# Altium footprint library Conn.TE.PcbLib: 14 footprints
Each footprint in its own frame and in the unit in brackets; x right, y up, seen from the top. Pads: shape width x height; smd on the part's side, far side on the other; paste and mask are expansions set on the pad; w line width, h text height; cw(c..) or ccw(c..) is an arc to the next point about the centre after c.
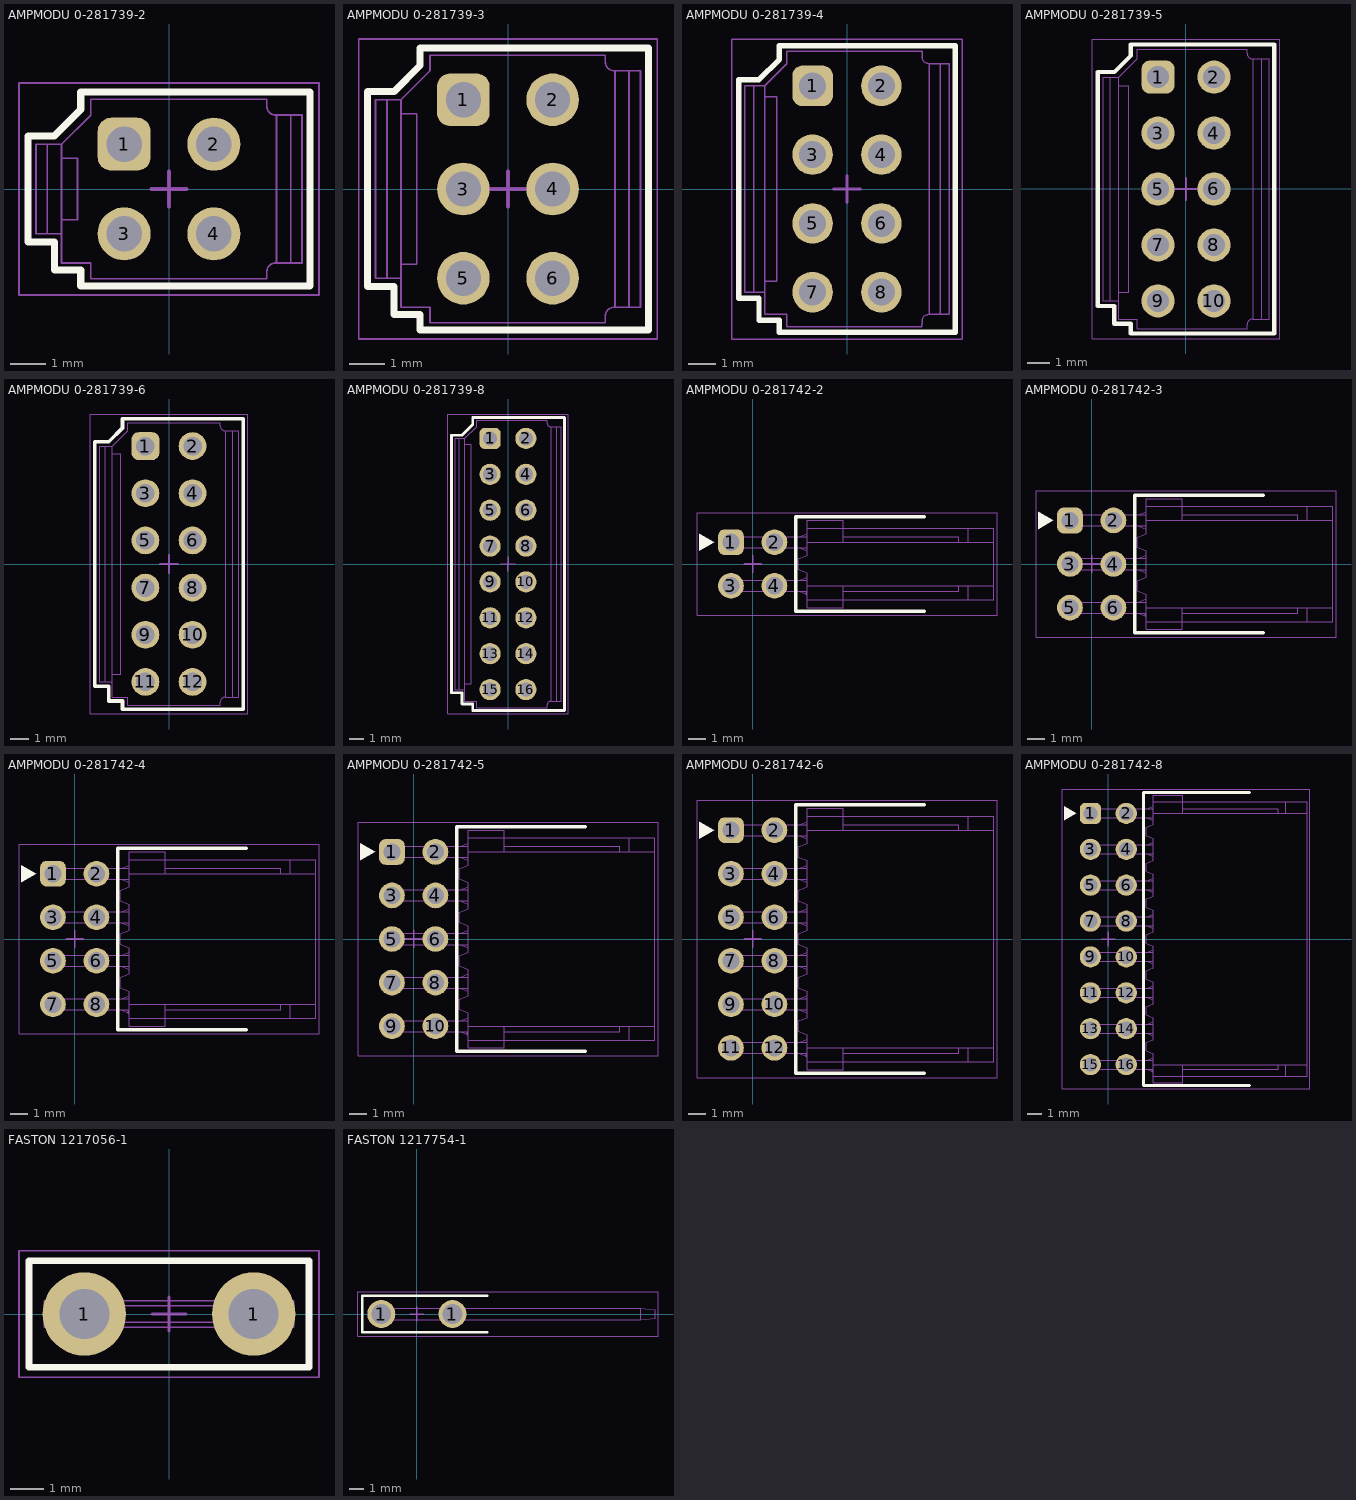
[diagram p0: the footprints below, top view; thin cyan lines are the x and y axes]

## AMPMODU 0-281739-2 [mm] "TE AMPMODU Header, 2.54mm Pitch, 4-Pin"
height 11.4
pads (4):
  rrect50% 1.5x1.5 hole 1: 1(-1.27,1.27)
  round 1.5 hole 1: 2(1.27,1.27) 3(-1.27,-1.27) 4(1.27,-1.27)
Top Overlay:
  lines w0.2: -4,-1.5 -4,1.5 -3.25,1.5 -2.5,2.25 -2.5,2.75 4,2.75 4,-2.75 -2.5,-2.75 -2.5,-2.3 -3.25,-2.3 -3.25,-1.5 -4,-1.5
Bottom Overlay:
  region: -2.254,1.27 -3.12,0.77 -3.12,1.77
Mechanical 1:
  lines w0.05: -3.447,-1.27 -3.447,1.27 ; -3.045,-1.27 -3.77,-1.27 -3.77,1.27 -3.045,1.27 ; -3.045,-0.87 -2.595,-0.87 -2.595,0.87 -3.045,0.87 ; 3.045,-2.095 3.045,2.095 ; 3.447,-2.095 3.447,2.095 ; -3.045,1.27 -2.22,2.095 -2.22,2.54 2.77,2.54 2.77,2.345 ccw(c3.02,2.345) 3.02,2.095 3.77,2.095 3.77,-2.095 3.02,-2.095 ccw(c3.02,-2.345) 2.77,-2.345 2.77,-2.54 -2.22,-2.54 -2.22,-2.095 -3.045,-2.095 -3.045,1.27 ; -1.587,-1.593 -1.587,-0.947 -0.953,-0.947 -0.953,-1.592 -1.587,-1.593 ; -1.587,0.947 -1.588,1.593 -0.953,1.593 -0.953,0.947 -1.587,0.947 ; 0.953,-1.593 1.588,-1.593 1.587,-0.947 0.953,-0.947 0.953,-1.593 ; 0.953,0.947 0.953,1.592 1.587,1.593 1.587,0.947 0.953,0.947
Mechanical 15:
  lines w0.05: -4.25,-3 4.25,-3 4.25,3 -4.25,3 -4.25,-3
  lines w0.1: -0.5,0 0.5,0 ; 0,-0.5 0,0.5
3D body "AMPMODU 0-281739-2.STEP": height 11.4, standoff -2.9, extent -3.77,-2.54 3.77,2.54

## AMPMODU 0-281739-3 [mm] "TE AMPMODU Header, 2.54mm Pitch, 6-Pin"
height 11.4
pads (6):
  rrect50% 1.5x1.5 hole 1: 1(-1.27,2.54)
  round 1.5 hole 1: 2(1.27,2.54) 3(-1.27,0) 4(1.27,0) 5(-1.27,-2.54) 6(1.27,-2.54)
Top Overlay:
  lines w0.2: -4,-2.77 -4,2.77 -3.25,2.77 -2.5,3.52 -2.5,4.02 4,4.02 4,-4.02 -2.5,-4.02 -2.5,-3.57 -3.25,-3.57 -3.25,-2.77 -4,-2.77
Bottom Overlay:
  region: -2.254,2.54 -3.12,2.04 -3.12,3.04
Mechanical 1:
  lines w0.05: -3.447,-2.54 -3.447,2.54 ; -3.045,-2.54 -3.77,-2.54 -3.77,2.54 -3.045,2.54 ; -3.045,-2.14 -2.595,-2.14 -2.595,2.14 -3.045,2.14 ; 3.045,-3.365 3.045,3.365 ; 3.447,-3.365 3.447,3.365 ; -3.045,2.54 -3.045,-3.365 -2.22,-3.365 -2.22,-3.81 2.77,-3.81 2.77,-3.615 cw(c3.02,-3.615) 3.02,-3.365 3.77,-3.365 3.77,3.365 3.02,3.365 cw(c3.02,3.615) 2.77,3.615 2.77,3.81 -2.22,3.81 -2.22,3.365 -3.045,2.54 ; -1.587,-2.863 -0.952,-2.863 -0.952,-2.217 -1.587,-2.218 -1.587,-2.863 ; -1.587,-0.323 -1.587,0.322 -0.953,0.323 -0.953,-0.323 -1.587,-0.323 ; -1.587,2.217 -1.587,2.863 -0.953,2.862 -0.953,2.217 -1.587,2.217 ; 0.953,-2.862 1.587,-2.863 1.587,-2.217 0.953,-2.217 0.953,-2.862 ; 0.953,-0.323 0.953,0.323 1.587,0.323 1.587,-0.322 0.953,-0.323 ; 0.952,2.217 0.952,2.863 1.587,2.863 1.587,2.218 0.952,2.217
Mechanical 15:
  lines w0.05: -4.25,-4.27 -4.25,4.27 4.25,4.27 4.25,-4.27 -4.25,-4.27
  lines w0.1: -0.5,0 0.5,0 ; 0,-0.5 0,0.5
3D body "AMPMODU 0-281739-3.stp": height 11.4, standoff -2.9, extent -3.77,-3.81 3.77,3.81

## AMPMODU 0-281739-4 [mm] "TE AMPMODU Header, 2.54mm Pitch, 8-Pin"
height 11.4
pads (8):
  rrect50% 1.5x1.5 hole 1: 1(-1.27,3.81)
  round 1.5 hole 1: 2(1.27,3.81) 3(-1.27,1.27) 4(1.27,1.27) 5(-1.27,-1.27) 6(1.27,-1.27) 7(-1.27,-3.81) 8(1.27,-3.81)
Top Overlay:
  lines w0.2: -4,-4.04 -3.25,-4.04 -3.25,-4.84 -2.5,-4.84 -2.5,-5.29 4,-5.29 4,5.29 -2.5,5.29 -2.5,4.79 -3.25,4.04 -4,4.04 -4,-4.04
Bottom Overlay:
  region: -2.254,3.81 -3.12,3.31 -3.12,4.31
Mechanical 1:
  lines w0.05: -3.447,-3.81 -3.447,3.81 ; -3.045,-3.81 -3.77,-3.81 -3.77,3.81 -3.045,3.81 ; -3.045,-3.41 -2.595,-3.41 -2.595,3.41 -3.045,3.41 ; 3.045,-4.635 3.045,4.635 ; 3.447,-4.635 3.447,4.635 ; -3.045,3.81 -2.22,4.635 -2.22,5.08 2.77,5.08 2.77,4.885 ccw(c3.02,4.885) 3.02,4.635 3.77,4.635 3.77,-4.635 3.02,-4.635 ccw(c3.02,-4.885) 2.77,-4.885 2.77,-5.08 -2.22,-5.08 -2.22,-4.635 -3.045,-4.635 -3.045,3.81 ; -1.588,-4.133 -1.588,-3.488 -0.953,-3.487 -0.953,-4.133 -1.588,-4.133 ; -1.587,-1.593 -1.587,-0.948 -0.952,-0.947 -0.952,-1.593 -1.587,-1.593 ; -1.587,0.947 -0.953,0.947 -0.953,1.593 -1.587,1.592 -1.587,0.947 ; -1.587,3.487 -0.953,3.487 -0.953,4.132 -1.587,4.133 -1.587,3.487 ; 0.952,-4.132 0.953,-3.487 1.587,-3.487 1.587,-4.133 0.952,-4.132 ; 0.953,-1.592 0.953,-0.947 1.587,-0.947 1.587,-1.593 0.953,-1.592 ; 0.953,0.947 1.587,0.948 1.587,1.593 0.953,1.593 0.953,0.947 ; 0.952,3.487 1.587,3.488 1.587,4.133 0.952,4.133 0.952,3.487
Mechanical 15:
  lines w0.05: -4.25,-5.54 4.25,-5.54 4.25,5.54 -4.25,5.54 -4.25,-5.54
  lines w0.1: -0.5,0 0.5,0 ; 0,-0.5 0,0.5
3D body "AMPMODU 0-281739-4.stp": height 11.4, standoff -2.9, extent -3.77,-5.08 3.77,5.08

## AMPMODU 0-281739-5 [mm] "TE AMPMODU Header, 2.54mm Pitch, 10-Pin"
height 11.4
pads (10):
  rrect50% 1.5x1.5 hole 1: 1(-1.27,5.08)
  round 1.5 hole 1: 2(1.27,5.08) 3(-1.27,2.54) 4(1.27,2.54) 5(-1.27,0) 6(1.27,0) 7(-1.27,-2.54) 8(1.27,-2.54) 9(-1.27,-5.08) 10(1.27,-5.08)
Top Overlay:
  lines w0.2: -4,-5.31 -4,5.31 -3.25,5.31 -2.5,6.06 -2.5,6.56 4,6.56 4,-6.56 -2.5,-6.56 -2.5,-6.11 -3.25,-6.11 -3.25,-5.31 -4,-5.31
Bottom Overlay:
  region: -2.254,5.08 -3.12,4.58 -3.12,5.58
Mechanical 1:
  lines w0.05: -3.447,-5.08 -3.447,5.08 ; -3.045,-5.08 -3.77,-5.08 -3.77,5.08 -3.045,5.08 ; -3.045,-4.68 -2.595,-4.68 -2.595,4.68 -3.045,4.68 ; 3.045,-5.905 3.045,5.905 ; 3.447,-5.905 3.447,5.905 ; -3.045,5.08 -3.045,-5.905 -2.22,-5.905 -2.22,-6.35 2.77,-6.35 2.77,-6.155 cw(c3.02,-6.155) 3.02,-5.905 3.77,-5.905 3.77,5.905 3.02,5.905 cw(c3.02,6.155) 2.77,6.155 2.77,6.35 -2.22,6.35 -2.22,5.905 -3.045,5.08 ; -1.588,-5.403 -0.953,-5.403 -0.953,-4.757 -1.588,-4.758 -1.588,-5.403 ; -1.588,-2.863 -0.953,-2.863 -0.953,-2.217 -1.588,-2.218 -1.588,-2.863 ; -1.587,-0.323 -0.952,-0.323 -0.952,0.323 -1.587,0.322 -1.587,-0.323 ; -1.587,2.217 -1.587,2.862 -0.953,2.863 -0.953,2.217 -1.587,2.217 ; -1.587,4.757 -1.587,5.403 -0.953,5.402 -0.953,4.757 -1.587,4.757 ; 0.952,-5.402 1.587,-5.403 1.587,-4.757 0.952,-4.757 0.952,-5.402 ; 0.952,-2.862 1.587,-2.863 1.587,-2.217 0.953,-2.217 0.952,-2.862 ; 0.953,-0.322 1.587,-0.323 1.587,0.323 0.953,0.323 0.953,-0.322 ; 0.953,2.217 0.953,2.863 1.587,2.863 1.587,2.218 0.953,2.217 ; 0.952,4.757 0.952,5.403 1.587,5.403 1.587,4.758 0.952,4.757
Mechanical 15:
  lines w0.05: -4.25,-6.81 -4.25,6.81 4.25,6.81 4.25,-6.81 -4.25,-6.81
  lines w0.1: -0.5,0 0.5,0 ; 0,-0.5 0,0.5
3D body "AMPMODU 0-281739-5.stp": height 11.4, standoff -2.9, extent -3.77,-6.35 3.77,6.35

## AMPMODU 0-281739-6 [mm] "TE AMPMODU Header, 2.54mm Pitch, 12-Pin"
height 11.4
pads (12):
  rrect50% 1.5x1.5 hole 1: 1(-1.27,6.35)
  round 1.5 hole 1: 2(1.27,6.35) 3(-1.27,3.81) 4(1.27,3.81) 5(-1.27,1.27) 6(1.27,1.27) 7(-1.27,-1.27) 8(1.27,-1.27) 9(-1.27,-3.81) 10(1.27,-3.81) 11(-1.27,-6.35) 12(1.27,-6.35)
Top Overlay:
  lines w0.2: -4,-6.58 -3.25,-6.58 -3.25,-7.38 -2.5,-7.38 -2.5,-7.83 4,-7.83 4,7.83 -2.5,7.83 -2.5,7.33 -3.25,6.58 -4,6.58 -4,-6.58
Bottom Overlay:
  region: -2.254,6.35 -3.12,5.85 -3.12,6.85
Mechanical 1:
  lines w0.05: -3.447,-6.35 -3.447,6.35 ; -3.045,-6.35 -3.77,-6.35 -3.77,6.35 -3.045,6.35 ; -3.045,-5.95 -2.595,-5.95 -2.595,5.95 -3.045,5.95 ; 3.045,-7.175 3.045,7.175 ; 3.447,-7.175 3.447,7.175 ; -3.045,6.35 -2.22,7.175 -2.22,7.62 2.77,7.62 2.77,7.425 ccw(c3.02,7.425) 3.02,7.175 3.77,7.175 3.77,-7.175 3.02,-7.175 ccw(c3.02,-7.425) 2.77,-7.425 2.77,-7.62 -2.22,-7.62 -2.22,-7.175 -3.045,-7.175 -3.045,6.35 ; -1.588,-6.673 -1.588,-6.028 -0.953,-6.027 -0.953,-6.673 -1.588,-6.673 ; -1.588,-4.133 -1.588,-3.488 -0.953,-3.487 -0.953,-4.133 -1.588,-4.133 ; -1.588,-1.593 -1.588,-0.948 -0.953,-0.947 -0.953,-1.593 -1.588,-1.593 ; -1.587,0.947 -1.587,1.592 -0.952,1.593 -0.952,0.947 -1.587,0.947 ; -1.587,3.487 -0.953,3.487 -0.953,4.133 -1.587,4.132 -1.587,3.487 ; -1.587,6.027 -0.953,6.027 -0.953,6.672 -1.587,6.673 -1.587,6.027 ; 0.952,-6.672 0.952,-6.027 1.587,-6.027 1.587,-6.673 0.952,-6.672 ; 0.952,-4.132 0.952,-3.487 1.587,-3.487 1.587,-4.133 0.952,-4.132 ; 0.952,-1.592 0.953,-0.947 1.587,-0.947 1.587,-1.593 0.952,-1.592 ; 0.953,0.948 0.953,1.593 1.587,1.593 1.587,0.947 0.953,0.948 ; 0.953,3.487 1.587,3.488 1.587,4.133 0.953,4.133 0.953,3.487 ; 0.952,6.027 1.587,6.028 1.587,6.673 0.952,6.673 0.952,6.027
Mechanical 15:
  lines w0.05: -4.25,-8.08 -4.25,8.08 4.25,8.08 4.25,-8.08 -4.25,-8.08
  lines w0.1: -0.5,0 0.5,0 ; 0,-0.5 0,0.5
3D body "AMPMODU 0-281739-6.stp": height 11.4, standoff -2.9, extent -3.77,-7.62 3.77,7.62

## AMPMODU 0-281739-8 [mm] "TE AMPMODU Header, 2.54mm Pitch, 16-Pin"
height 11.4
pads (16):
  rrect50% 1.5x1.5 hole 1: 1(-1.27,8.89)
  round 1.5 hole 1: 2(1.27,8.89) 3(-1.27,6.35) 4(1.27,6.35) 5(-1.27,3.81) 6(1.27,3.81) 7(-1.27,1.27) 8(1.27,1.27) 9(-1.27,-1.27) 10(1.27,-1.27) 11(-1.27,-3.81) 12(1.27,-3.81) 13(-1.27,-6.35) 14(1.27,-6.35) 15(-1.27,-8.89) 16(1.27,-8.89)
Top Overlay:
  lines w0.2: -4,-9.12 -4,9.12 -3.25,9.12 -2.5,9.87 -2.5,10.37 4,10.37 4,-10.37 -2.5,-10.37 -2.5,-9.92 -3.25,-9.92 -3.25,-9.12 -4,-9.12
Bottom Overlay:
  region: -2.254,8.89 -3.12,8.39 -3.12,9.39
Mechanical 1:
  lines w0.05: -3.447,-8.89 -3.447,8.89 ; -3.045,-8.89 -3.77,-8.89 -3.77,8.89 -3.045,8.89 ; -3.045,-8.49 -2.595,-8.49 -2.595,8.49 -3.045,8.49 ; 3.045,-9.715 3.045,9.715 ; 3.447,-9.715 3.447,9.715 ; -3.045,8.89 -3.045,-9.715 -2.22,-9.715 -2.22,-10.16 2.77,-10.16 2.77,-9.965 cw(c3.02,-9.965) 3.02,-9.715 3.77,-9.715 3.77,9.715 3.02,9.715 cw(c3.02,9.965) 2.77,9.965 2.77,10.16 -2.22,10.16 -2.22,9.715 -3.045,8.89 ; -1.588,-9.213 -0.953,-9.213 -0.953,-8.567 -1.588,-8.568 -1.588,-9.213 ; -1.588,-6.673 -0.953,-6.673 -0.953,-6.027 -1.588,-6.028 -1.588,-6.673 ; -1.588,-4.133 -0.953,-4.133 -0.953,-3.487 -1.588,-3.488 -1.588,-4.133 ; -1.588,-1.593 -0.953,-1.593 -0.953,-0.947 -1.588,-0.948 -1.588,-1.593 ; -1.588,0.947 -0.953,0.947 -0.953,1.593 -1.588,1.592 -1.588,0.947 ; -1.587,3.487 -0.952,3.487 -0.952,4.133 -1.587,4.132 -1.587,3.487 ; -1.587,6.027 -1.587,6.672 -0.953,6.673 -0.953,6.027 -1.587,6.027 ; -1.587,8.567 -1.587,9.213 -0.953,9.212 -0.953,8.567 -1.587,8.567 ; 0.952,-9.212 1.587,-9.213 1.587,-8.567 0.952,-8.567 0.952,-9.212 ; 0.952,-6.672 1.587,-6.673 1.587,-6.027 0.952,-6.027 0.952,-6.672 ; 0.952,-4.132 1.587,-4.133 1.587,-3.487 0.952,-3.487 0.952,-4.132 ; 0.952,-1.592 1.587,-1.593 1.587,-0.947 0.952,-0.947 0.952,-1.592 ; 0.952,0.948 1.587,0.947 1.587,1.593 0.953,1.593 0.952,0.948 ; 0.953,3.488 1.587,3.487 1.587,4.133 0.953,4.133 0.953,3.488 ; 0.953,6.027 0.953,6.673 1.587,6.673 1.587,6.028 0.953,6.027 ; 0.952,8.567 0.952,9.213 1.587,9.213 1.587,8.568 0.952,8.567
Mechanical 15:
  lines w0.05: -4.25,-10.62 -4.25,10.62 4.25,10.62 4.25,-10.62 -4.25,-10.62
  lines w0.1: -0.5,0 0.5,0 ; 0,-0.5 0,0.5
3D body "AMPMODU 0-281739-8.stp": height 11.4, standoff -2.9, extent -3.77,-10.16 3.77,10.16

## AMPMODU 0-281742-2 [mm] "TE AMPMODU Header, 2.54mm Pitch, 4-Pin, Right-Angled"
height 7.62
pads (4):
  rrect50% 1.5x1.5 hole 1: 1(-1.27,1.27)
  round 1.5 hole 1: 2(1.27,1.27) 3(-1.27,-1.27) 4(1.27,-1.27)
Top Overlay:
  region: -2.254,1.27 -3.12,1.77 -3.12,0.77
  lines w0.2: 10,-2.75 2.5,-2.75 2.5,2.75 10,2.75
Mechanical 1:
  lines w0.05: -0.952,-1.593 -0.952,-0.947 ; -0.952,0.947 -0.952,1.593 ; 2.726,-1.593 3.12,-1.75 ; 2.726,-0.947 3.17,-0.77 ; 2.726,0.947 3.17,0.77 ; 2.726,1.593 3.17,1.77 ; 3.12,-1.593 3.12,-1.79 3.17,-1.79 ; 3.17,-2.095 14.07,-2.095 14.07,2.095 3.17,2.095 ; 3.17,-1.593 -1.587,-1.593 -1.587,-0.947 3.17,-0.947 ; 3.17,-1.27 14.07,-1.27 ; 3.17,0.947 -1.587,0.947 -1.587,1.593 3.17,1.593 ; 3.17,1.27 14.07,1.27 ; 5.27,-1.593 12.02,-1.593 12.02,-1.27 ; 5.27,-1.27 5.27,-2.54 3.17,-2.54 3.17,-0.5 2.67,-0.3 2.67,0.3 3.17,0.5 3.17,2.54 5.27,2.54 5.27,1.27 ; 5.27,1.593 12.02,1.593 12.02,1.27 ; 12.57,-2.095 12.57,-1.27 ; 12.57,1.27 12.57,2.095
Mechanical 15:
  lines w0.05: -3.25,-3 14.25,-3 14.25,3 -3.25,3 -3.25,-3
  lines w0.1: -0.5,0 0.5,0 ; 0,-0.5 0,0.5
3D body "AMPMODU 0-281742-2.stp": height 7.54, standoff -2.9, extent -1.587,-2.54 14.07,2.54

## AMPMODU 0-281742-3 [mm] "TE AMPMODU Header, 2.54mm Pitch, 6-Pin, Right-Angled"
height 7.62
pads (6):
  rrect50% 1.5x1.5 hole 1: 1(-1.27,2.54)
  round 1.5 hole 1: 2(1.27,2.54) 3(-1.27,0) 4(1.27,0) 5(-1.27,-2.54) 6(1.27,-2.54)
Top Overlay:
  region: -2.254,2.54 -3.12,3.04 -3.12,2.04
  lines w0.2: 10,-4.02 2.5,-4.02 2.5,4.02 10,4.02
Mechanical 1:
  lines w0.05: -0.952,-2.863 -0.952,-2.217 ; -0.952,-0.323 -0.952,0.323 ; -0.952,2.217 -0.952,2.863 ; 2.726,-2.863 3.12,-3.02 ; 2.726,-2.217 3.17,-2.04 ; 2.726,-0.323 3.17,-0.5 ; 2.726,0.323 3.17,0.5 ; 2.726,2.217 3.17,2.04 ; 2.726,2.863 3.17,3.04 ; 3.12,-2.863 3.12,-3.06 3.17,-3.06 ; 3.17,-3.365 14.07,-3.365 14.07,3.365 3.17,3.365 ; 3.17,-2.863 -1.587,-2.863 -1.587,-2.217 3.17,-2.217 ; 3.17,-2.54 14.07,-2.54 ; 3.17,-0.323 -1.587,-0.323 -1.587,0.323 3.17,0.323 ; 3.17,2.217 -1.587,2.217 -1.587,2.863 3.17,2.863 ; 3.17,2.54 14.07,2.54 ; 5.27,-2.863 12.02,-2.863 12.02,-2.54 ; 5.27,-2.54 5.27,-3.81 3.17,-3.81 3.17,-1.77 2.67,-1.57 2.67,-0.97 3.17,-0.77 3.17,0.77 2.67,0.97 2.67,1.57 3.17,1.77 3.17,3.81 5.27,3.81 5.27,2.54 ; 5.27,2.863 12.02,2.863 12.02,2.54 ; 12.57,-3.365 12.57,-2.54 ; 12.57,2.54 12.57,3.365
Mechanical 15:
  lines w0.05: -3.25,-4.27 -3.25,4.27 14.25,4.27 14.25,-4.27 -3.25,-4.27
  lines w0.1: -0.5,0 0.5,0 ; 0,-0.5 0,0.5
3D body "AMPMODU 0-281742-3.stp": height 7.54, standoff -2.9, extent -1.587,-3.81 14.07,3.81

## AMPMODU 0-281742-4 [mm] "TE AMPMODU Header, 2.54mm Pitch, 8-Pin, Right-Angled"
height 7.62
pads (8):
  rrect50% 1.5x1.5 hole 1: 1(-1.27,3.81)
  round 1.5 hole 1: 2(1.27,3.81) 3(-1.27,1.27) 4(1.27,1.27) 5(-1.27,-1.27) 6(1.27,-1.27) 7(-1.27,-3.81) 8(1.27,-3.81)
Top Overlay:
  region: -2.254,3.81 -3.12,4.31 -3.12,3.31
  lines w0.2: 10,-5.29 2.5,-5.29 2.5,5.29 10,5.29
Mechanical 1:
  lines w0.05: -0.952,-4.133 -0.952,-3.487 ; -0.952,-1.593 -0.952,-0.947 ; -0.952,0.947 -0.952,1.593 ; -0.952,3.487 -0.952,4.133 ; 2.726,-4.133 3.12,-4.29 ; 2.726,-3.487 3.17,-3.31 ; 2.726,-1.593 3.17,-1.77 ; 2.726,-0.947 3.17,-0.77 ; 2.726,0.947 3.17,0.77 ; 2.726,1.593 3.17,1.77 ; 2.726,3.487 3.17,3.31 ; 2.726,4.133 3.17,4.31 ; 3.12,-4.133 3.12,-4.33 3.17,-4.33 ; 3.17,-4.635 14.07,-4.635 14.07,4.635 3.17,4.635 ; 3.17,-4.133 -1.587,-4.133 -1.587,-3.487 3.17,-3.487 ; 3.17,-3.81 14.07,-3.81 ; 3.17,-1.593 -1.587,-1.593 -1.587,-0.947 3.17,-0.947 ; 3.17,0.947 -1.587,0.947 -1.587,1.593 3.17,1.593 ; 3.17,3.487 -1.587,3.487 -1.587,4.133 3.17,4.133 ; 3.17,3.81 14.07,3.81 ; 5.27,-4.133 12.02,-4.133 12.02,-3.81 ; 5.27,-3.81 5.27,-5.08 3.17,-5.08 3.17,-3.04 2.67,-2.84 2.67,-2.24 3.17,-2.04 3.17,-0.5 2.67,-0.3 2.67,0.3 3.17,0.5 3.17,2.04 2.67,2.24 2.67,2.84 3.17,3.04 3.17,5.08 5.27,5.08 5.27,3.81 ; 5.27,4.133 12.02,4.133 12.02,3.81 ; 12.57,-4.635 12.57,-3.81 ; 12.57,3.81 12.57,4.635
Mechanical 15:
  lines w0.05: -3.25,-5.54 14.25,-5.54 14.25,5.54 -3.25,5.54 -3.25,-5.54
  lines w0.1: -0.5,0 0.5,0 ; 0,-0.5 0,0.5
3D body "AMPMODU 0-281742-4.stp": height 7.54, standoff -2.9, extent -1.587,-5.08 14.07,5.08

## AMPMODU 0-281742-5 [mm] "TE AMPMODU Header, 2.54mm Pitch, 10-Pin, Right-Angled"
height 7.62
pads (10):
  rrect50% 1.5x1.5 hole 1: 1(-1.27,5.08)
  round 1.5 hole 1: 2(1.27,5.08) 3(-1.27,2.54) 4(1.27,2.54) 5(-1.27,0) 6(1.27,0) 7(-1.27,-2.54) 8(1.27,-2.54) 9(-1.27,-5.08) 10(1.27,-5.08)
Top Overlay:
  region: -2.254,5.08 -3.12,5.58 -3.12,4.58
  lines w0.2: 10,-6.56 2.5,-6.56 2.5,6.56 10,6.56
Mechanical 1:
  lines w0.05: -0.952,-5.403 -0.952,-4.757 ; -0.952,-2.863 -0.952,-2.217 ; -0.952,-0.323 -0.952,0.323 ; -0.952,2.217 -0.952,2.863 ; -0.952,4.757 -0.952,5.403 ; 2.726,-5.403 3.12,-5.56 ; 2.726,-4.757 3.17,-4.58 ; 2.726,-2.863 3.17,-3.04 ; 2.726,-2.217 3.17,-2.04 ; 2.726,-0.323 3.17,-0.5 ; 2.726,0.323 3.17,0.5 ; 2.726,2.217 3.17,2.04 ; 2.726,2.863 3.17,3.04 ; 2.726,4.757 3.17,4.58 ; 2.726,5.403 3.17,5.58 ; 3.12,-5.403 3.12,-5.6 3.17,-5.6 ; 3.17,-5.905 14.07,-5.905 14.07,5.905 3.17,5.905 ; 3.17,-5.403 -1.587,-5.403 -1.587,-4.757 3.17,-4.757 ; 3.17,-5.08 14.07,-5.08 ; 3.17,-2.863 -1.587,-2.863 -1.587,-2.217 3.17,-2.217 ; 3.17,-0.323 -1.587,-0.323 -1.587,0.323 3.17,0.323 ; 3.17,2.217 -1.587,2.217 -1.587,2.863 3.17,2.863 ; 3.17,4.757 -1.587,4.757 -1.587,5.403 3.17,5.403 ; 3.17,5.08 14.07,5.08 ; 5.27,-5.403 12.02,-5.403 12.02,-5.08 ; 5.27,-5.08 5.27,-6.35 3.17,-6.35 3.17,-4.31 2.67,-4.11 2.67,-3.51 3.17,-3.31 3.17,-1.77 2.67,-1.57 2.67,-0.97 3.17,-0.77 3.17,0.77 2.67,0.97 2.67,1.57 3.17,1.77 3.17,3.31 2.67,3.51 2.67,4.11 3.17,4.31 3.17,6.35 5.27,6.35 5.27,5.08 ; 5.27,5.403 12.02,5.403 12.02,5.08 ; 12.57,-5.905 12.57,-5.08 ; 12.57,5.08 12.57,5.905
Mechanical 15:
  lines w0.05: -3.25,-6.81 14.25,-6.81 14.25,6.81 -3.25,6.81 -3.25,-6.81
  lines w0.1: -0.5,0 0.5,0 ; 0,-0.5 0,0.5
3D body "AMPMODU 0-281742-5.stp": height 7.54, standoff -2.9, extent -1.587,-6.35 14.07,6.35

## AMPMODU 0-281742-6 [mm] "TE AMPMODU Header, 2.54mm Pitch, 12-Pin, Right-Angled"
height 7.62
pads (12):
  rrect50% 1.5x1.5 hole 1: 1(-1.27,6.35)
  round 1.5 hole 1: 2(1.27,6.35) 3(-1.27,3.81) 4(1.27,3.81) 5(-1.27,1.27) 6(1.27,1.27) 7(-1.27,-1.27) 8(1.27,-1.27) 9(-1.27,-3.81) 10(1.27,-3.81) 11(-1.27,-6.35) 12(1.27,-6.35)
Top Overlay:
  region: -2.254,6.35 -3.12,6.85 -3.12,5.85
  lines w0.2: 10,-7.83 2.5,-7.83 2.5,7.83 10,7.83
Mechanical 1:
  lines w0.05: -0.952,-6.673 -0.952,-6.027 ; -0.952,-4.133 -0.952,-3.487 ; -0.952,-1.593 -0.952,-0.947 ; -0.952,0.947 -0.952,1.593 ; -0.952,3.487 -0.952,4.133 ; -0.952,6.027 -0.952,6.673 ; 2.726,-6.673 3.12,-6.83 ; 2.726,-6.027 3.17,-5.85 ; 2.726,-4.133 3.17,-4.31 ; 2.726,-3.487 3.17,-3.31 ; 2.726,-1.593 3.17,-1.77 ; 2.726,-0.947 3.17,-0.77 ; 2.726,0.947 3.17,0.77 ; 2.726,1.593 3.17,1.77 ; 2.726,3.487 3.17,3.31 ; 2.726,4.133 3.17,4.31 ; 2.726,6.027 3.17,5.85 ; 2.726,6.673 3.17,6.85 ; 3.12,-6.673 3.12,-6.87 3.17,-6.87 ; 3.17,-7.175 14.07,-7.175 14.07,7.175 3.17,7.175 ; 3.17,-6.673 -1.587,-6.673 -1.587,-6.027 3.17,-6.027 ; 3.17,-6.35 14.07,-6.35 ; 3.17,-4.133 -1.587,-4.133 -1.587,-3.487 3.17,-3.487 ; 3.17,-1.593 -1.587,-1.593 -1.587,-0.947 3.17,-0.947 ; 3.17,0.947 -1.587,0.947 -1.587,1.593 3.17,1.593 ; 3.17,3.487 -1.587,3.487 -1.587,4.133 3.17,4.133 ; 3.17,6.027 -1.587,6.027 -1.587,6.673 3.17,6.673 ; 3.17,6.35 14.07,6.35 ; 5.27,-6.673 12.02,-6.673 12.02,-6.35 ; 5.27,-6.35 5.27,-7.62 3.17,-7.62 3.17,-5.58 2.67,-5.38 2.67,-4.78 3.17,-4.58 3.17,-3.04 2.67,-2.84 2.67,-2.24 3.17,-2.04 3.17,-0.5 2.67,-0.3 2.67,0.3 3.17,0.5 3.17,2.04 2.67,2.24 2.67,2.84 3.17,3.04 3.17,4.58 2.67,4.78 2.67,5.38 3.17,5.58 3.17,7.62 5.27,7.62 5.27,6.35 ; 5.27,6.673 12.02,6.673 12.02,6.35 ; 12.57,-7.175 12.57,-6.35 ; 12.57,6.35 12.57,7.175
Mechanical 15:
  lines w0.05: -3.25,-8.08 -3.25,8.08 14.25,8.08 14.25,-8.08 -3.25,-8.08
  lines w0.1: -0.5,0 0.5,0 ; 0,-0.5 0,0.5
3D body "AMPMODU 0-281742-6.stp": height 7.54, standoff -2.9, extent -1.587,-7.62 14.07,7.62

## AMPMODU 0-281742-8 [mm] "TE AMPMODU Header, 2.54mm Pitch, 16-Pin, Right-Angled"
height 7.62
pads (16):
  rrect50% 1.5x1.5 hole 1: 1(-1.27,8.89)
  round 1.5 hole 1: 2(1.27,8.89) 3(-1.27,6.35) 4(1.27,6.35) 5(-1.27,3.81) 6(1.27,3.81) 7(-1.27,1.27) 8(1.27,1.27) 9(-1.27,-1.27) 10(1.27,-1.27) 11(-1.27,-3.81) 12(1.27,-3.81) 13(-1.27,-6.35) 14(1.27,-6.35) 15(-1.27,-8.89) 16(1.27,-8.89)
Top Overlay:
  region: -2.254,8.89 -3.12,9.39 -3.12,8.39
  lines w0.2: 10,-10.37 2.5,-10.37 2.5,10.37 10,10.37
Mechanical 1:
  lines w0.05: -0.952,-9.213 -0.952,-8.567 ; -0.952,-6.673 -0.952,-6.027 ; -0.952,-4.133 -0.952,-3.487 ; -0.952,-1.593 -0.952,-0.947 ; -0.952,0.947 -0.952,1.593 ; -0.952,3.487 -0.952,4.133 ; -0.952,6.027 -0.952,6.673 ; -0.952,8.567 -0.952,9.213 ; 2.726,-9.213 3.12,-9.37 ; 2.726,-8.567 3.17,-8.39 ; 2.726,-6.673 3.17,-6.85 ; 2.726,-6.027 3.17,-5.85 ; 2.726,-4.133 3.17,-4.31 ; 2.726,-3.487 3.17,-3.31 ; 2.726,-1.593 3.17,-1.77 ; 2.726,-0.947 3.17,-0.77 ; 2.726,0.947 3.17,0.77 ; 2.726,1.593 3.17,1.77 ; 2.726,3.487 3.17,3.31 ; 2.726,4.133 3.17,4.31 ; 2.726,6.027 3.17,5.85 ; 2.726,6.673 3.17,6.85 ; 2.726,8.567 3.17,8.39 ; 2.726,9.213 3.17,9.39 ; 3.12,-9.213 3.12,-9.41 3.17,-9.41 ; 3.17,-9.715 14.07,-9.715 14.07,9.715 3.17,9.715 ; 3.17,-9.213 -1.587,-9.213 -1.587,-8.567 3.17,-8.567 ; 3.17,-8.89 14.07,-8.89 ; 3.17,-6.673 -1.587,-6.673 -1.587,-6.027 3.17,-6.027 ; 3.17,-4.133 -1.587,-4.133 -1.587,-3.487 3.17,-3.487 ; 3.17,-1.593 -1.587,-1.593 -1.587,-0.947 3.17,-0.947 ; 3.17,0.947 -1.587,0.947 -1.587,1.593 3.17,1.593 ; 3.17,3.487 -1.587,3.487 -1.587,4.133 3.17,4.133 ; 3.17,6.027 -1.587,6.027 -1.587,6.673 3.17,6.673 ; 3.17,8.567 -1.587,8.567 -1.587,9.213 3.17,9.213 ; 3.17,8.89 14.07,8.89 ; 5.27,-9.213 12.02,-9.213 12.02,-8.89 ; 5.27,-8.89 5.27,-10.16 3.17,-10.16 3.17,-8.12 2.67,-7.92 2.67,-7.32 3.17,-7.12 3.17,-5.58 2.67,-5.38 2.67,-4.78 3.17,-4.58 3.17,-3.04 2.67,-2.84 2.67,-2.24 3.17,-2.04 3.17,-0.5 2.67,-0.3 2.67,0.3 3.17,0.5 3.17,2.04 2.67,2.24 2.67,2.84 3.17,3.04 3.17,4.58 2.67,4.78 2.67,5.38 3.17,5.58 3.17,7.12 2.67,7.32 2.67,7.92 3.17,8.12 3.17,10.16 5.27,10.16 5.27,8.89 ; 5.27,9.213 12.02,9.213 12.02,8.89 ; 12.57,-9.715 12.57,-8.89 ; 12.57,8.89 12.57,9.715
Mechanical 15:
  lines w0.05: -3.25,-10.62 -3.25,10.62 14.25,10.62 14.25,-10.62 -3.25,-10.62
  lines w0.1: -0.5,0 0.5,0 ; 0,-0.5 0,0.5
3D body "AMPMODU 0-281742-8.stp": height 7.54, standoff -2.9, extent -1.587,-10.16 14.07,10.16

## FASTON 1217056-1 [mm] "TE FASTON PCB Terminal, 6.3mm"
height 12.6
pads (2):
  round 2.5 hole 1.5: 1(-2.54,0) 1(2.54,0)
Top Overlay:
  lines w0.2: -4.2,-1.6 -4.2,1.6 4.2,1.6 4.2,-1.6 -4.2,-1.6
Mechanical 1:
  lines w0.05: -3.175,-0.4 -3.175,0.4 ; -3.175,-0.378 -2.413,-0.243 ; -3.175,0.378 -2.413,0.243 ; 3.175,-0.4 3.175,0.4 ; 3.175,-0.378 2.413,-0.243 ; 3.175,0.378 2.413,0.243 ; -2.413,-0.243 -2.413,0.243 ; -2.413,-0.243 2.413,-0.243 ; -2.413,0.243 2.413,0.243 ; 2.413,-0.243 2.413,0.243 ; -3.746,-0.4 -3.746,0.4 3.746,0.4 3.746,-0.4 -3.746,-0.4
Mechanical 15:
  lines w0.05: -4.5,-1.9 -4.5,1.9 4.5,1.9 4.5,-1.9 -4.5,-1.9
  lines w0.1: -0.5,0 0.5,0 ; 0,-0.5 0,0.5
3D body "FASTON 1217056-1.stp": height 12.62, standoff -3.17, extent -3.746,-0.4 3.746,0.4

## FASTON 1217754-1 [mm] "TE FASTON PCB Terminal, 6.3mm, Right-Angle"
height 8.89
pads (2):
  round 2 hole 1.4: 1(-2.54,0) 1(2.54,0)
Top Overlay:
  lines w0.2: 5,-1.3 -3.9,-1.3 -3.9,1.3 5,1.3
Mechanical 1:
  lines w0.05: -3.143,-0.325 -3.143,-0.4 15.983,-0.4 ; -3.143,0.325 -3.143,0.4 15.983,0.4 ; -2.432,-0.4 -3.321,-0.307 -3.321,0.307 -2.432,0.4 ; -2.305,-0.4 -2.305,0.4 ; 15.983,-0.4 16.999,-0.293 16.999,0.293 15.983,0.4 ; 15.983,-0.4 15.983,0.4
Mechanical 15:
  lines w0.05: -4.2,-1.6 17.2,-1.6 17.2,1.6 -4.2,1.6 -4.2,-1.6
  lines w0.1: -0.5,0 0.5,0 ; 0,-0.5 0,0.5
3D body "FASTON 1217754-1.stp": height 8.89, standoff -3.81, extent -3.321,-0.4 16.999,0.4